# Altium footprint library R1218(3246).PcbLib: 1 footprints
Each footprint in its own frame and in the unit in brackets; x right, y up, seen from the top. Pads: shape width x height; smd on the part's side, far side on the other; paste and mask are expansions set on the pad; w line width, h text height; cw(c..) or ccw(c..) is an arc to the next point about the centre after c.
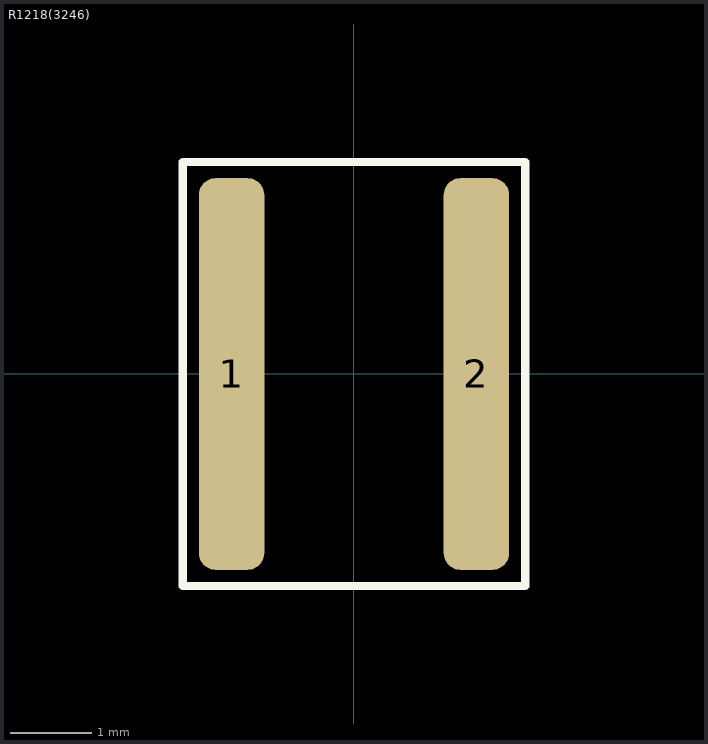
[diagram p0: the footprint, top view; thin cyan lines are the x and y axes]

## R1218(3246) [mm]
height 0.55
pads (2):
  rrect50% 0.8x4.8 smd: 1(-1.5,0) 2(1.5,0)
Top Overlay:
  lines w0.1: -2.1,-2.6 -2.1,2.6 2.1,2.6 2.1,-2.6 -2.1,-2.6
3D body "SMD R-1218.STEP": height 0.85, standoff 0.3, extent -1.6,-2.3 1.6,2.3